# Altium footprint library PcbLib1.PcbLib: 18 footprints (part 2 of 2)
Each footprint in its own frame and in the unit in brackets; x right, y up, seen from the top. Pads: shape width x height; smd on the part's side, far side on the other; paste and mask are expansions set on the pad; w line width, h text height; cw(c..) or ccw(c..) is an arc to the next point about the centre after c.
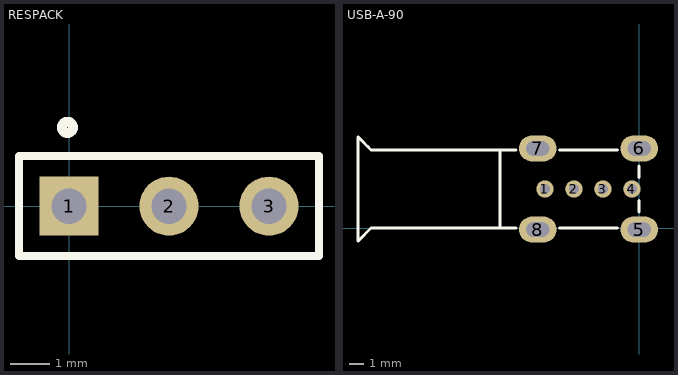
[diagram p1: the footprints below, top view; thin cyan lines are the x and y axes]

## RESPACK [mm]
pads (3):
  rect 1.5x1.5 hole 0.9: 1(0,0)
  round 1.5 hole 0.9: 2(2.54,0) 3(5.08,0)
Top Overlay:
  circle w0.254: c-0.041,2 r0.141
  lines w0.2: -1.27,-1.27 -1.27,1.27 6.35,1.27 6.35,-1.27 -1.27,-1.27
3D body "RES3296.STEP": height 11.55, standoff -6.4, extent -2.24,-2.494 7.29,2.337

## USB-A-90 [mm]
pads (8):
  round 1.2 hole 0.7: 1(-6.5,2.7) 2(-4.5,2.7) 3(-2.5,2.7) 4(-0.5,2.7)
  oval 2.6x1.8 hole 1 slot 1.6 at 0 deg: 5(0,-0.1) 6(0,5.5) 7(-7,5.5) 8(-7,-0.1)
Top Overlay:
  lines w0.203: -18.75,5.65 -18.5,5.4 ; -17.2,0 -8.5,0 ; -16.8,0 -18.5,0 -19.4,-0.9 -19.4,6.3 -18.5,5.4 ; -15.6,5.4 -18.5,5.4 ; -9.6,0 -9.6,5.4 ; -8.5,5.4 -18.5,5.4 ; -5.5,0 -1.5,0 ; -5.5,5.4 -1.5,5.4 ; 0,1.1 0,1.9 ; 0,3.5 0,4.3
3D body "usb_a-usb_a-e.stp": height 14.62, standoff -3.59, extent -18.49,-0.848 0.71,6.35